# Altium footprint library PCB - LEADED - SOT-23 - LT TSOT-23-6 S6.PCBLIB: 1 footprints
Each footprint in its own frame and in the unit in brackets; x right, y up, seen from the top. Pads: shape width x height; smd on the part's side, far side on the other; paste and mask are expansions set on the pad; w line width, h text height; cw(c..) or ccw(c..) is an arc to the next point about the centre after c.
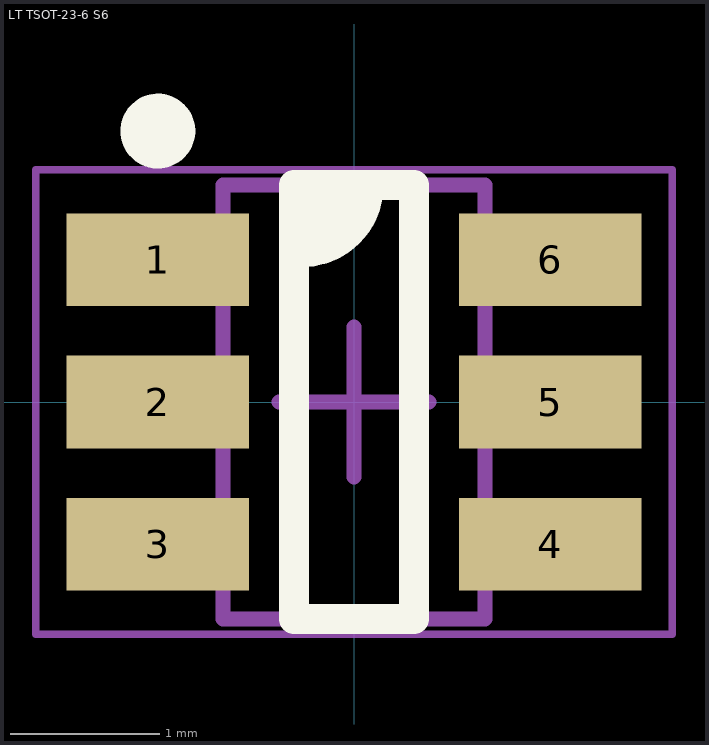
[diagram p0: the footprint, top view; thin cyan lines are the x and y axes]

## LT TSOT-23-6 S6 [mm] "TSOT23, 6-Leads, Body 2.90x2.80mm, Pitch 0.95mm, IPC High Density"
height 1
pads (6):
  rect 1.22x0.62 smd: 1(-1.31,0.95) 2(-1.31,0) 3(-1.31,-0.95) 4(1.31,-0.95) 5(1.31,0) 6(1.31,0.95)
Top Overlay:
  circle w0.25: c-1.31,1.81 r0.125
  region: -0.4,1.45 0.1,1.45 0.1,1.3 -0.2,1 -0.4,1
  lines w0.2: -0.4,1 -0.35,1 ccw(c-0.35,1.45) 0.1,1.45 ; -0.4,-1.45 -0.4,1.45 0.4,1.45 0.4,-1.45 -0.4,-1.45
Mechanical 13:
  lines w0.1: -0.875,-1.45 -0.875,1.45 0.875,1.45 0.875,-1.45 -0.875,-1.45
Mechanical 15:
  lines w0.05: -2.125,-1.55 -2.125,1.55 2.125,1.55 2.125,-1.55 -2.125,-1.55
Mechanical 2 (Mech9):
  lines w0.1: -0.5,0 0.5,0 ; 0,-0.5 0,0.5
3D body "Analog TSOT-23-6.step": height 1, standoff 0, extent -1.4,-1.449 1.4,1.449